# Altium schematic symbol library S2B-ZR-SM4A-TF_LF__SN_.SchLib: 2 symbols
Pins are listed as number, name and electrical type; pins without a type are passive.

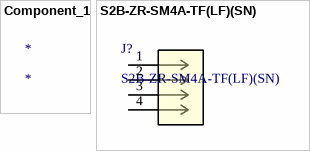
[diagram p0: symbols Component_1 to S2B-ZR-SM4A-TF(LF)(SN)]

## Component_1
designator *

## S2B-ZR-SM4A-TF(LF)(SN)
designator J?
No Description Available; Mfr_Name: JST; Copyright: Copyright (C) 2023 Ultra Librarian. All rights reserved.; Manufacturer_Part_Number: S2B-ZR-SM4A-TF(LF)(SN); RefDes: RefDes; Type: DEV
footprint CONN_S2B-ZR-SM4A-TF(LF)(SN)_JST
pins: 1, 2, 3 SHIELD, 4 SHIELD